# EAGLE library part HMC174MS8 (library trswitch-hittite)
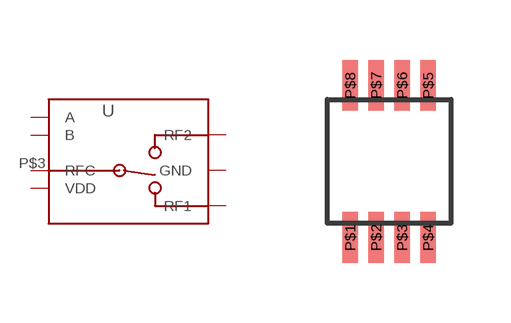
[diagram p0: symbol with the pads of SOIC8; footprint SOIC8]

Designator prefix -

## HMC174MS8  [SOIC8]
P$1  A
P$2  B
P$3  RFC
P$4  VDD
P$5  RF1
P$6  GND
P$7  GND1
P$8  RF2

## Footprint SOIC8 (pad centres in mm)
smd 0.381 x 1.27: P$1 -0.975,-1.905; P$2 -0.325,-1.905; P$3 0.325,-1.905; P$4 0.975,-1.905; P$5 0.975,1.905; P$6 0.325,1.905; P$7 -0.325,1.905; P$8 -0.975,1.905